# Altium footprint library 15EDGVC_3.5.PcbLib: 1 footprints
Each footprint in its own frame and in the unit in brackets; x right, y up, seen from the top. Pads: shape width x height; smd on the part's side, far side on the other; paste and mask are expansions set on the pad; w line width, h text height; cw(c..) or ccw(c..) is an arc to the next point about the centre after c.

## PCBComponent_1 [mm]
3D body "15EDGVC-3.5-02P-14-00AH.STEP": height 7.25, standoff 0.05, extent -3.3,-6.3 4.5,6.3